# Altium footprint library renesas.PCBLIB: 1 footprints
Each footprint in its own frame and in the unit in brackets; x right, y up, seen from the top. Pads: shape width x height; smd on the part's side, far side on the other; paste and mask are expansions set on the pad; w line width, h text height; cw(c..) or ccw(c..) is an arc to the next point about the centre after c.
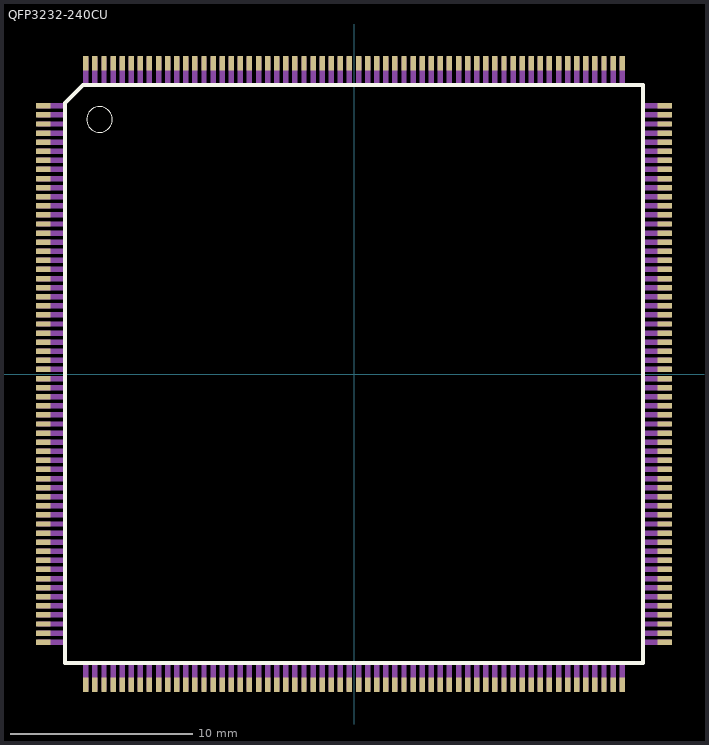
[diagram p0: the footprint, top view; thin cyan lines are the x and y axes]

## QFP3232-240CU [mil]
pads (240):
  rect 31.5x11.81 smd: 1(-673.23,580.71) 2(-673.23,561.02) 3(-673.23,541.34) 4(-673.23,521.65) 5(-673.23,501.97) 6(-673.23,482.28) 7(-673.23,462.6) 8(-673.23,442.91) 9(-673.23,423.23) 10(-673.23,403.54) 11(-673.23,383.86) 12(-673.23,364.17) 13(-673.23,344.49) 14(-673.23,324.8) 15(-673.23,305.12) 16(-673.23,285.43) 17(-673.23,265.75) 18(-673.23,246.06) 19(-673.23,226.38) 20(-673.23,206.69) 21(-673.23,187.01) 22(-673.23,167.32) 23(-673.23,147.64) 24(-673.23,127.95) 25(-673.23,108.27) 26(-673.23,88.58) 27(-673.23,68.9) 28(-673.23,49.21) 29(-673.23,29.53) 30(-673.23,9.84) 31(-673.23,-9.84) 32(-673.23,-29.53) 33(-673.23,-49.21) 34(-673.23,-68.9) 35(-673.23,-88.58) 36(-673.23,-108.27) 37(-673.23,-127.95) 38(-673.23,-147.64) 39(-673.23,-167.32) 40(-673.23,-187.01) 41(-673.23,-206.69) 42(-673.23,-226.38) 43(-673.23,-246.06) 44(-673.23,-265.75) 45(-673.23,-285.43) 46(-673.23,-305.12) 47(-673.23,-324.8) 48(-673.23,-344.49) 49(-673.23,-364.17) 50(-673.23,-383.86) 51(-673.23,-403.54) 52(-673.23,-423.23) 53(-673.23,-442.91) 54(-673.23,-462.6) 55(-673.23,-482.28) 56(-673.23,-501.97) 57(-673.23,-521.65) 58(-673.23,-541.34) 59(-673.23,-561.02) 60(-673.23,-580.71) 121(673.23,-580.71) 122(673.23,-561.02) 123(673.23,-541.34) 124(673.23,-521.65) 125(673.23,-501.97) 126(673.23,-482.28) 127(673.23,-462.6) 128(673.23,-442.91) 129(673.23,-423.23) 130(673.23,-403.54) 131(673.23,-383.86) 132(673.23,-364.17) 133(673.23,-344.49) 134(673.23,-324.8) 135(673.23,-305.12) 136(673.23,-285.43) 137(673.23,-265.75) 138(673.23,-246.06) 139(673.23,-226.38) 140(673.23,-206.69) 141(673.23,-187.01) 142(673.23,-167.32) 143(673.23,-147.64) 144(673.23,-127.95) 145(673.23,-108.27) 146(673.23,-88.58) 147(673.23,-68.9) 148(673.23,-49.21) 149(673.23,-29.53) 150(673.23,-9.84) 151(673.23,9.84) 152(673.23,29.53) 153(673.23,49.21) 154(673.23,68.9) 155(673.23,88.58) 156(673.23,108.27) 157(673.23,127.95) 158(673.23,147.64) 159(673.23,167.32) 160(673.23,187.01) 161(673.23,206.69) 162(673.23,226.38) 163(673.23,246.06) 164(673.23,265.75) 165(673.23,285.43) 166(673.23,305.12) 167(673.23,324.8) 168(673.23,344.49) 169(673.23,364.17) 170(673.23,383.86) 171(673.23,403.54) 172(673.23,423.23) 173(673.23,442.91) 174(673.23,462.6) 175(673.23,482.28) 176(673.23,501.97) 177(673.23,521.65) 178(673.23,541.34) 179(673.23,561.02) 180(673.23,580.71)
  rect 11.81x31.5 smd: 61(-580.71,-673.23) 62(-561.02,-673.23) 63(-541.34,-673.23) 64(-521.65,-673.23) 65(-501.97,-673.23) 66(-482.28,-673.23) 67(-462.6,-673.23) 68(-442.91,-673.23) 69(-423.23,-673.23) 70(-403.54,-673.23) 71(-383.86,-673.23) 72(-364.17,-673.23) 73(-344.49,-673.23) 74(-324.8,-673.23) 75(-305.12,-673.23) 76(-285.43,-673.23) 77(-265.75,-673.23) 78(-246.06,-673.23) 79(-226.38,-673.23) 80(-206.69,-673.23) 81(-187.01,-673.23) 82(-167.32,-673.23) 83(-147.64,-673.23) 84(-127.95,-673.23) 85(-108.27,-673.23) 86(-88.58,-673.23) 87(-68.9,-673.23) 88(-49.21,-673.23) 89(-29.53,-673.23) 90(-9.84,-673.23) 91(9.84,-673.23) 92(29.53,-673.23) 93(49.21,-673.23) 94(68.9,-673.23) 95(88.58,-673.23) 96(108.27,-673.23) 97(127.95,-673.23) 98(147.64,-673.23) 99(167.32,-673.23) 100(187.01,-673.23) 101(206.69,-673.23) 102(226.38,-673.23) 103(246.06,-673.23) 104(265.75,-673.23) 105(285.43,-673.23) 106(305.12,-673.23) 107(324.8,-673.23) 108(344.49,-673.23) 109(364.17,-673.23) 110(383.86,-673.23) 111(403.54,-673.23) 112(423.23,-673.23) 113(442.91,-673.23) 114(462.6,-673.23) 115(482.28,-673.23) 116(501.97,-673.23) 117(521.65,-673.23) 118(541.34,-673.23) 119(561.02,-673.23) 120(580.71,-673.23) 181(580.71,673.23) 182(561.02,673.23) 183(541.34,673.23) 184(521.65,673.23) 185(501.97,673.23) 186(482.28,673.23) 187(462.6,673.23) 188(442.91,673.23) 189(423.23,673.23) 190(403.54,673.23) 191(383.86,673.23) 192(364.17,673.23) 193(344.49,673.23) 194(324.8,673.23) 195(305.12,673.23) 196(285.43,673.23) 197(265.75,673.23) 198(246.06,673.23) 199(226.38,673.23) 200(206.69,673.23) 201(187.01,673.23) 202(167.32,673.23) 203(147.64,673.23) 204(127.95,673.23) 205(108.27,673.23) 206(88.58,673.23) 207(68.9,673.23) 208(49.21,673.23) 209(29.53,673.23) 210(9.84,673.23) 211(-9.84,673.23) 212(-29.53,673.23) 213(-49.21,673.23) 214(-68.9,673.23) 215(-88.58,673.23) 216(-108.27,673.23) 217(-127.95,673.23) 218(-147.64,673.23) 219(-167.32,673.23) 220(-187.01,673.23) 221(-206.69,673.23) 222(-226.38,673.23) 223(-246.06,673.23) 224(-265.75,673.23) 225(-285.43,673.23) 226(-305.12,673.23) 227(-324.8,673.23) 228(-344.49,673.23) 229(-364.17,673.23) 230(-383.86,673.23) 231(-403.54,673.23) 232(-423.23,673.23) 233(-442.91,673.23) 234(-462.6,673.23) 235(-482.28,673.23) 236(-501.97,673.23) 237(-521.65,673.23) 238(-541.34,673.23) 239(-561.02,673.23) 240(-580.71,673.23)
Top Overlay:
  circle w0: c-551.18,551.18 r27.84
  lines w8: -625.98,-625.98 625.98,-625.98 625.98,625.98 -586.61,625.98 -625.98,586.61 -625.98,-625.98
Mechanical 16:
  drawing of 240 lines, arcs and shapes, not listed